# EAGLE library part BLOCK_14VA (library Trafo)
Block-Trafo 2*15V, 14VA
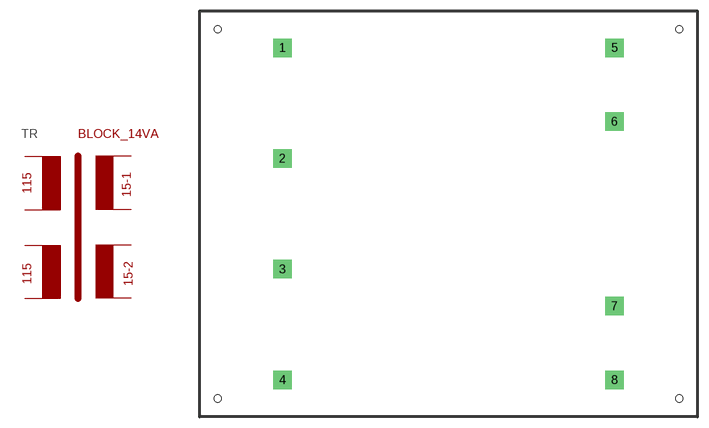
[diagram p9: symbol with the pads of BLOCK_14VA; footprint BLOCK_14VA]

Designator prefix TR

## BLOCK_14VA  [BLOCK_14VA]
1  P1A
2  P1B
3  P2A
4  P2B
5  S1A
6  S1B
7  S2A
8  S2B

## Footprint BLOCK_14VA (pad centres in mm)
Block-Trafo 2* 15V, 14VA
drill 1 pad 2.54 square: 1 -24.13,20.32; 2 -24.13,5.08; 3 -24.13,-10.16; 4 -24.13,-25.4; 5 21.59,20.32; 6 21.59,10.16; 7 21.59,-15.24; 8 21.59,-25.4
hole 1 at -33.02,22.86
hole 1 at -33.02,-27.94
hole 1 at 30.48,-27.94
hole 1 at 30.48,22.86